# Altium schematic symbol library SCH - MCU - STM32 - ST MICROELECTRONICS STM32N645Z0HXQ VFBGA142.SchLib: 1 symbol
Pins are listed as number, name and electrical type; pins without a type are passive.

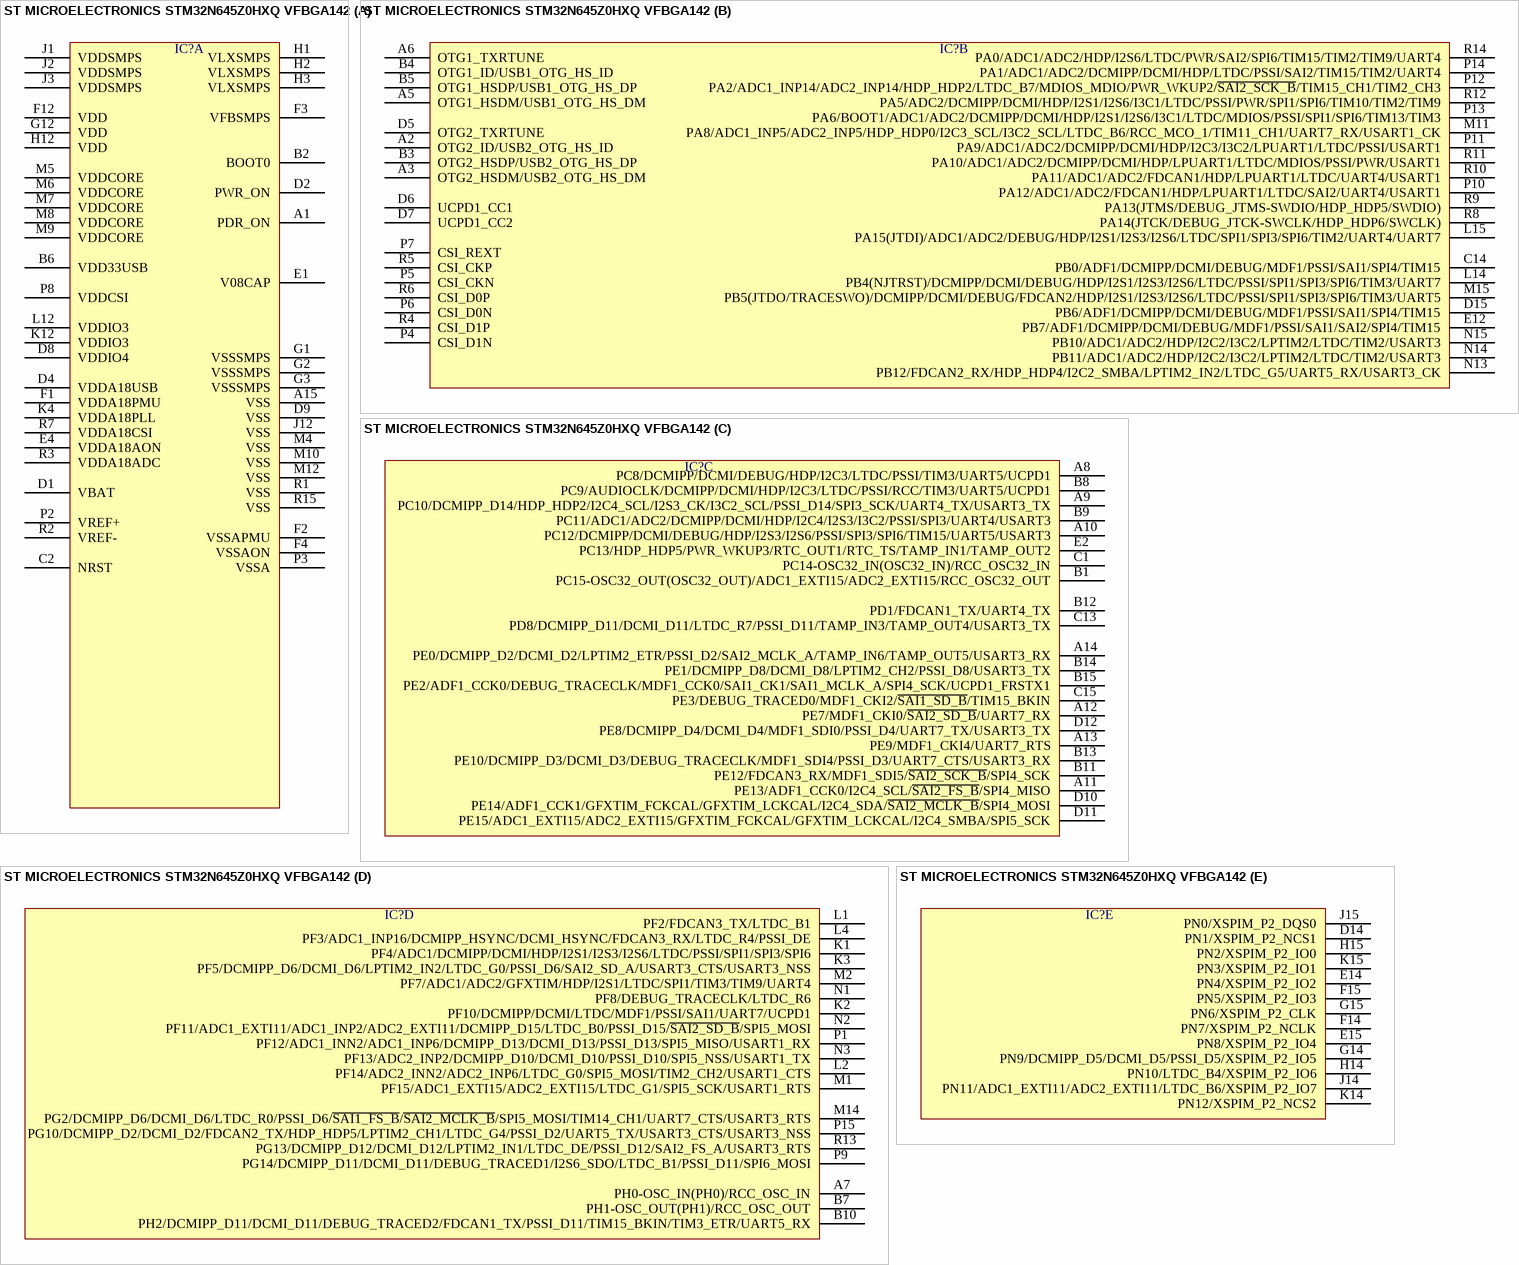
[diagram p0: symbol ST MICROELECTRONICS STM32N645Z0HXQ VFBGA142]

## ST MICROELECTRONICS STM32N645Z0HXQ VFBGA142
designator IC?
part A pins: A1 PDR_ON, A15 VSS, B2 BOOT0, B6 VDD33USB, C2 NRST, D1 VBAT, D2 PWR_ON, D4 VDDA18USB, D8 VDDIO4, D9 VSS, E1 V08CAP, E4 VDDA18AON, F1 VDDA18PMU, F2 VSSAPMU, F3 VFBSMPS, F4 VSSAON, F12 VDD, G1 VSSSMPS, G2 VSSSMPS, G3 VSSSMPS, G12 VDD, H1 VLXSMPS, H2 VLXSMPS, H3 VLXSMPS, H12 VDD, J1 VDDSMPS, J2 VDDSMPS, J3 VDDSMPS, J12 VSS, K4 VDDA18PLL, K12 VDDIO3, L12 VDDIO3, M4 VSS, M5 VDDCORE, M6 VDDCORE, M7 VDDCORE, M8 VDDCORE, M9 VDDCORE, M10 VSS, M12 VSS, P2 VREF+, P3 VSSA, P8 VDDCSI, R1 VSS, R2 VREF-, R3 VDDA18ADC, R7 VDDA18CSI, R15 VSS
part B pins: A2 OTG2_ID/USB2_OTG_HS_ID, A3 OTG2_HSDM/USB2_OTG_HS_DM, A5 OTG1_HSDM/USB1_OTG_HS_DM, A6 OTG1_TXRTUNE, B3 OTG2_HSDP/USB2_OTG_HS_DP, B4 OTG1_ID/USB1_OTG_HS_ID, B5 OTG1_HSDP/USB1_OTG_HS_DP, C14 PB0/ADF1/DCMIPP/DCMI/DEBUG/MDF1/PSSI/SAI1/SPI4/TIM15, D5 OTG2_TXRTUNE, D6 UCPD1_CC1, D7 UCPD1_CC2, D15 PB6/ADF1/DCMIPP/DCMI/DEBUG/MDF1/PSSI/SAI1/SPI4/TIM15, E12 PB7/ADF1/DCMIPP/DCMI/DEBUG/MDF1/PSSI/SAI1/SAI2/SPI4/TIM15, L14 PB4(NJTRST)/DCMIPP/DCMI/DEBUG/HDP/I2S1/I2S3/I2S6/LTDC/PSSI/SPI1/SPI3/SPI6/TIM3/UART7, L15 PA15(JTDI)/ADC1/ADC2/DEBUG/HDP/I2S1/I2S3/I2S6/LTDC/SPI1/SPI3/SPI6/TIM2/UART4/UART7, M11 PA8/ADC1_INP5/ADC2_INP5/HDP_HDP0/I2C3_SCL/I3C2_SCL/LTDC_B6/RCC_MCO_1/TIM11_CH1/UART7_RX/USART1_CK, M15 PB5(JTDO/TRACESWO)/DCMIPP/DCMI/DEBUG/FDCAN2/HDP/I2S1/I2S3/I2S6/LTDC/PSSI/SPI1/SPI3/SPI6/TIM3/UART5, N13 PB12/FDCAN2_RX/HDP_HDP4/I2C2_SMBA/LPTIM2_IN2/LTDC_G5/UART5_RX/USART3_CK, N14 PB11/ADC1/ADC2/HDP/I2C2/I3C2/LPTIM2/LTDC/TIM2/USART3, N15 PB10/ADC1/ADC2/HDP/I2C2/I3C2/LPTIM2/LTDC/TIM2/USART3, P4 CSI_D1N, P5 CSI_CKN, P6 CSI_D0N, P7 CSI_REXT, P10 PA12/ADC1/ADC2/FDCAN1/HDP/LPUART1/LTDC/SAI2/UART4/USART1, P11 PA9/ADC1/ADC2/DCMIPP/DCMI/HDP/I2C3/I3C2/LPUART1/LTDC/PSSI/USART1, P12 PA2/ADC1_INP14/ADC2_INP14/HDP_HDP2/LTDC_B7/MDIOS_MDIO/PWR_WKUP2/~{SAI2_SCK_B}/TIM15_CH1/TIM2_CH3, P13 PA6/BOOT1/ADC1/ADC2/DCMIPP/DCMI/HDP/I2S1/I2S6/I3C1/LTDC/MDIOS/PSSI/SPI1/SPI6/TIM13/TIM3, P14 PA1/ADC1/ADC2/DCMIPP/DCMI/HDP/LTDC/PSSI/SAI2/TIM15/TIM2/UART4, R4 CSI_D1P, R5 CSI_CKP, R6 CSI_D0P, R8 PA14(JTCK/DEBUG_JTCK-SWCLK/HDP_HDP6/SWCLK), R9 PA13(JTMS/DEBUG_JTMS-SWDIO/HDP_HDP5/SWDIO), R10 PA11/ADC1/ADC2/FDCAN1/HDP/LPUART1/LTDC/UART4/USART1, R11 PA10/ADC1/ADC2/DCMIPP/DCMI/HDP/LPUART1/LTDC/MDIOS/PSSI/PWR/USART1, R12 PA5/ADC2/DCMIPP/DCMI/HDP/I2S1/I2S6/I3C1/LTDC/PSSI/PWR/SPI1/SPI6/TIM10/TIM2/TIM9, R14 PA0/ADC1/ADC2/HDP/I2S6/LTDC/PWR/SAI2/SPI6/TIM15/TIM2/TIM9/UART4
part C pins: A8 PC8/DCMIPP/DCMI/DEBUG/HDP/I2C3/LTDC/PSSI/TIM3/UART5/UCPD1, A9 PC10/DCMIPP_D14/HDP_HDP2/I2C4_SCL/I2S3_CK/I3C2_SCL/PSSI_D14/SPI3_SCK/UART4_TX/USART3_TX, A10 PC12/DCMIPP/DCMI/DEBUG/HDP/I2S3/I2S6/PSSI/SPI3/SPI6/TIM15/UART5/USART3, A11 PE13/ADF1_CCK0/I2C4_SCL/~{SAI2_FS_B}/SPI4_MISO, A12 PE7/MDF1_CKI0/~{SAI2_SD_B}/UART7_RX, A13 PE9/MDF1_CKI4/UART7_RTS, A14 PE0/DCMIPP_D2/DCMI_D2/LPTIM2_ETR/PSSI_D2/SAI2_MCLK_A/TAMP_IN6/TAMP_OUT5/USART3_RX, B1 PC15-OSC32_OUT(OSC32_OUT)/ADC1_EXTI15/ADC2_EXTI15/RCC_OSC32_OUT, B8 PC9/AUDIOCLK/DCMIPP/DCMI/HDP/I2C3/LTDC/PSSI/RCC/TIM3/UART5/UCPD1, B9 PC11/ADC1/ADC2/DCMIPP/DCMI/HDP/I2C4/I2S3/I3C2/PSSI/SPI3/UART4/USART3, B11 PE12/FDCAN3_RX/MDF1_SDI5/~{SAI2_SCK_B}/SPI4_SCK, B12 PD1/FDCAN1_TX/UART4_TX, B13 PE10/DCMIPP_D3/DCMI_D3/DEBUG_TRACECLK/MDF1_SDI4/PSSI_D3/UART7_CTS/USART3_RX, B14 PE1/DCMIPP_D8/DCMI_D8/LPTIM2_CH2/PSSI_D8/USART3_TX, B15 PE2/ADF1_CCK0/DEBUG_TRACECLK/MDF1_CCK0/SAI1_CK1/SAI1_MCLK_A/SPI4_SCK/UCPD1_FRSTX1, C1 PC14-OSC32_IN(OSC32_IN)/RCC_OSC32_IN, C13 PD8/DCMIPP_D11/DCMI_D11/LTDC_R7/PSSI_D11/TAMP_IN3/TAMP_OUT4/USART3_TX, C15 PE3/DEBUG_TRACED0/MDF1_CKI2/~{SAI1_SD_B}/TIM15_BKIN, D10 PE14/ADF1_CCK1/GFXTIM_FCKCAL/GFXTIM_LCKCAL/I2C4_SDA/~{SAI2_MCLK_B}/SPI4_MOSI, D11 PE15/ADC1_EXTI15/ADC2_EXTI15/GFXTIM_FCKCAL/GFXTIM_LCKCAL/I2C4_SMBA/SPI5_SCK, D12 PE8/DCMIPP_D4/DCMI_D4/MDF1_SDI0/PSSI_D4/UART7_TX/USART3_TX, E2 PC13/HDP_HDP5/PWR_WKUP3/RTC_OUT1/RTC_TS/TAMP_IN1/TAMP_OUT2
part D pins: A7 PH0-OSC_IN(PH0)/RCC_OSC_IN, B7 PH1-OSC_OUT(PH1)/RCC_OSC_OUT, B10 PH2/DCMIPP_D11/DCMI_D11/DEBUG_TRACED2/FDCAN1_TX/PSSI_D11/TIM15_BKIN/TIM3_ETR/UART5_RX, K1 PF4/ADC1/DCMIPP/DCMI/HDP/I2S1/I2S3/I2S6/LTDC/PSSI/SPI1/SPI3/SPI6, K2 PF10/DCMIPP/DCMI/LTDC/MDF1/PSSI/SAI1/UART7/UCPD1, K3 PF5/DCMIPP_D6/DCMI_D6/LPTIM2_IN2/LTDC_G0/PSSI_D6/SAI2_SD_A/USART3_CTS/USART3_NSS, L1 PF2/FDCAN3_TX/LTDC_B1, L2 PF14/ADC2_INN2/ADC2_INP6/LTDC_G0/SPI5_MOSI/TIM2_CH2/USART1_CTS, L4 PF3/ADC1_INP16/DCMIPP_HSYNC/DCMI_HSYNC/FDCAN3_RX/LTDC_R4/PSSI_DE, M1 PF15/ADC1_EXTI15/ADC2_EXTI15/LTDC_G1/SPI5_SCK/USART1_RTS, M2 PF7/ADC1/ADC2/GFXTIM/HDP/I2S1/LTDC/SPI1/TIM3/TIM9/UART4, M14 PG2/DCMIPP_D6/DCMI_D6/LTDC_R0/PSSI_D6/~{SAI1_FS_B}/~{SAI2_MCLK_B}/SPI5_MOSI/TIM14_CH1/UART7_CTS/USART3_RTS, N1 PF8/DEBUG_TRACECLK/LTDC_R6, N2 PF11/ADC1_EXTI11/ADC1_INP2/ADC2_EXTI11/DCMIPP_D15/LTDC_B0/PSSI_D15/~{SAI2_SD_B}/SPI5_MOSI, N3 PF13/ADC2_INP2/DCMIPP_D10/DCMI_D10/PSSI_D10/SPI5_NSS/USART1_TX, P1 PF12/ADC1_INN2/ADC1_INP6/DCMIPP_D13/DCMI_D13/PSSI_D13/SPI5_MISO/USART1_RX, P9 PG14/DCMIPP_D11/DCMI_D11/DEBUG_TRACED1/I2S6_SDO/LTDC_B1/PSSI_D11/SPI6_MOSI, P15 PG10/DCMIPP_D2/DCMI_D2/FDCAN2_TX/HDP_HDP5/LPTIM2_CH1/LTDC_G4/PSSI_D2/UART5_TX/USART3_CTS/USART3_NSS, R13 PG13/DCMIPP_D12/DCMI_D12/LPTIM2_IN1/LTDC_DE/PSSI_D12/SAI2_FS_A/USART3_RTS
part E pins: D14 PN1/XSPIM_P2_NCS1, E14 PN4/XSPIM_P2_IO2, E15 PN8/XSPIM_P2_IO4, F14 PN7/XSPIM_P2_NCLK, F15 PN5/XSPIM_P2_IO3, G14 PN9/DCMIPP_D5/DCMI_D5/PSSI_D5/XSPIM_P2_IO5, G15 PN6/XSPIM_P2_CLK, H14 PN10/LTDC_B4/XSPIM_P2_IO6, H15 PN2/XSPIM_P2_IO0, J14 PN11/ADC1_EXTI11/ADC2_EXTI11/LTDC_B6/XSPIM_P2_IO7, J15 PN0/XSPIM_P2_DQS0, K14 PN12/XSPIM_P2_NCS2, K15 PN3/XSPIM_P2_IO1